# EAGLE library part NRF24L01 (library mylibrary)
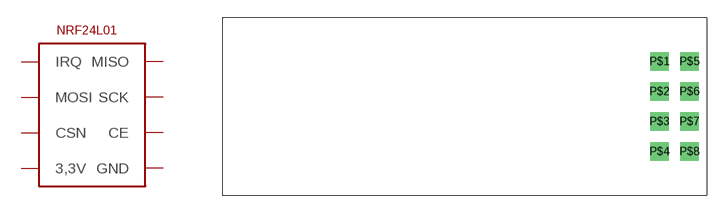
[diagram p1: symbol with the pads of NRF24L01; footprint NRF24L01]

Designator prefix NRF24L01

## NRF24L01  [NRF24L01]
P$1  IRQ
P$2  MOSI
P$3  CSN
P$4  3,3V
P$5  MISO
P$6  SCK
P$7  CE
P$8  GND

## Footprint NRF24L01 (pad centres in mm)
drill 0.8 pad 1.575 square: P$1 16.51,3.81; P$2 16.51,1.27; P$3 16.51,-1.27; P$4 16.51,-3.81; P$5 19.05,3.81; P$6 19.05,1.27; P$7 19.05,-1.27; P$8 19.05,-3.81